# Altium footprint library EIGHTH_BRICK_8_0.PcbLib: 1 footprints
Each footprint in its own frame and in the unit in brackets; x right, y up, seen from the top. Pads: shape width x height; smd on the part's side, far side on the other; paste and mask are expansions set on the pad; w line width, h text height; cw(c..) or ccw(c..) is an arc to the next point about the centre after c.
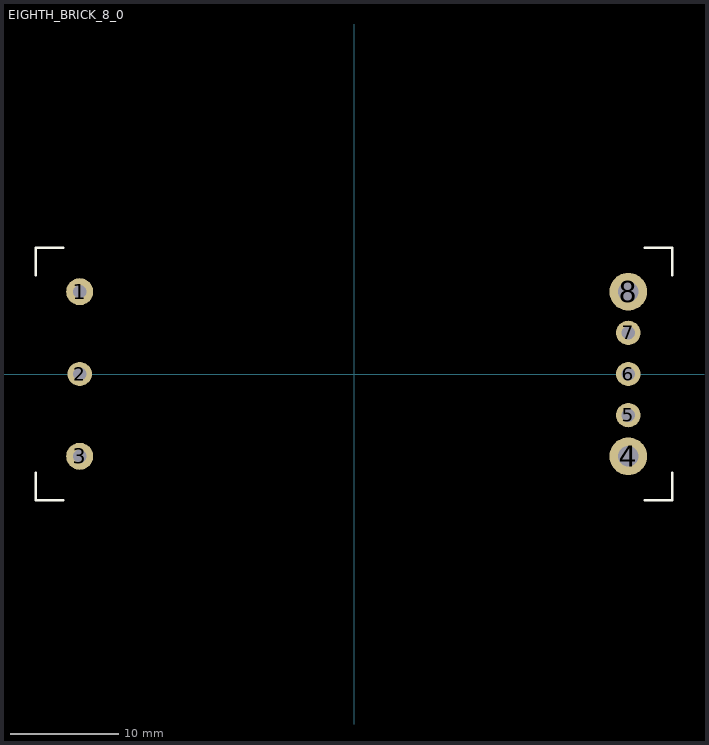
[diagram p0: the footprint, top view; thin cyan lines are the x and y axes]

## EIGHTH_BRICK_8_0 [mm] "Eighth-Brick Power Module, 8-pin"
pads (8):
  round 2.5 hole 1.25: 1(-25.4,7.62) 3(-25.4,-7.62)
  round 2.25 hole 1.25: 2(-25.4,0) 5(25.4,-3.81) 6(25.4,0) 7(25.4,3.81)
  round 3.5 hole 1.9: 4(25.4,-7.62) 8(25.4,7.62)
Top Overlay:
  lines w0.254: -29.464,-9.144 -29.464,-11.684 -26.924,-11.684 ; -29.464,9.144 -29.464,11.684 -26.924,11.684 ; 26.924,-11.684 29.464,-11.684 29.464,-9.144 ; 26.924,11.684 29.464,11.684 29.464,9.144
3D body: height 9.65, standoff 0.25, extent -29.2,-11.5 29.2,11.5